# EAGLE library part WE-RJ45_HPLE_10/100_BASET_STD_LED (library Wuerth_Elektronik_eiSos_Version_6-12)
WE-RJ45 HPLE Transformer 10/100 BaseT with LED - RJ45 connector with integrated transformer common mode choke - 350 µH min.OCL with 8 mA bias - Complies with IEEE 802.3 - Extended temperature range from 0°C to +70°C available -- ADSL Modem -- Embedded PC -- LAN network applications -- Hub, Router, Switches
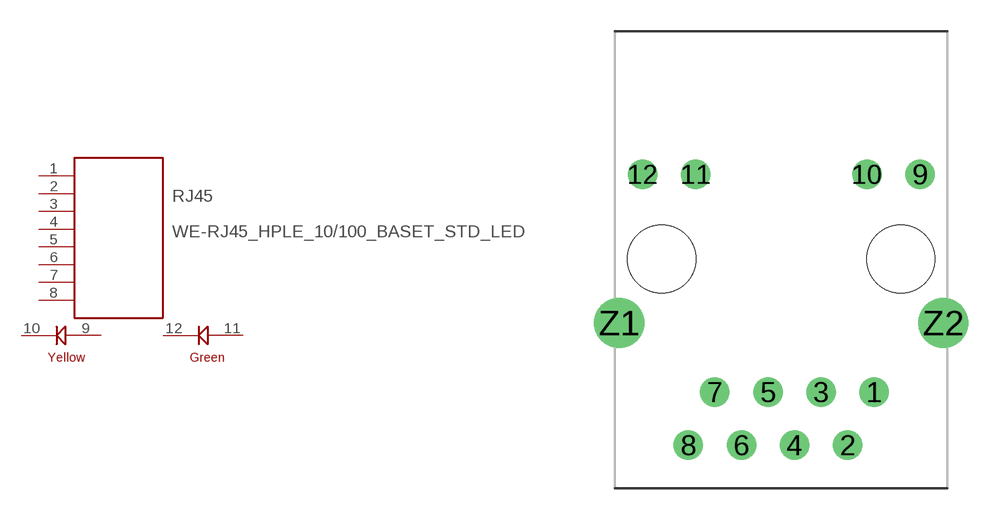
[diagram p85: symbol with the pads of WE-RJ45_HPLE_10/100_BASET_74990111215; footprint WE-RJ45_HPLE_10/100_BASET_74990111215]

Designator prefix RJ45

## WE-RJ45_HPLE_10/100_BASET_STD_LED_7499011215  [WE-RJ45_HPLE_10/100_BASET_74990111215]
1  1  pas
2  2  pas
3  3  pas
4  4  pas
5  5  pas
6  6  pas
7  7  pas
8  8  pas
9  9  pas
10  10  pas
11  11  pas
12  12  pas

## Footprint WE-RJ45_HPLE_10/100_BASET_74990111215 (pad centres in mm)
WE-RJ45 HPLE Transformer 10/100 BaseT, Standard with LED
drill 0.9 round: 1 4.445,-6.35; 2 3.175,-8.89; 3 1.905,-6.35; 4 0.635,-8.89; 5 -0.635,-6.35; 6 -1.905,-8.89; 7 -3.175,-6.35; 8 -4.445,-8.89; 9 6.63,4.06; 10 4.09,4.06; 11 -4.09,4.06; 12 -6.63,4.06
drill 1.6 round: Z1 -7.745,-3.05; Z2 7.745,-3.05
hole 3.25 at 5.715,0
hole 3.25 at -5.715,0